# Altium schematic symbol library Schlib1.SchLib: 10 symbols
Pins are listed as number, name and electrical type; pins without a type are passive.

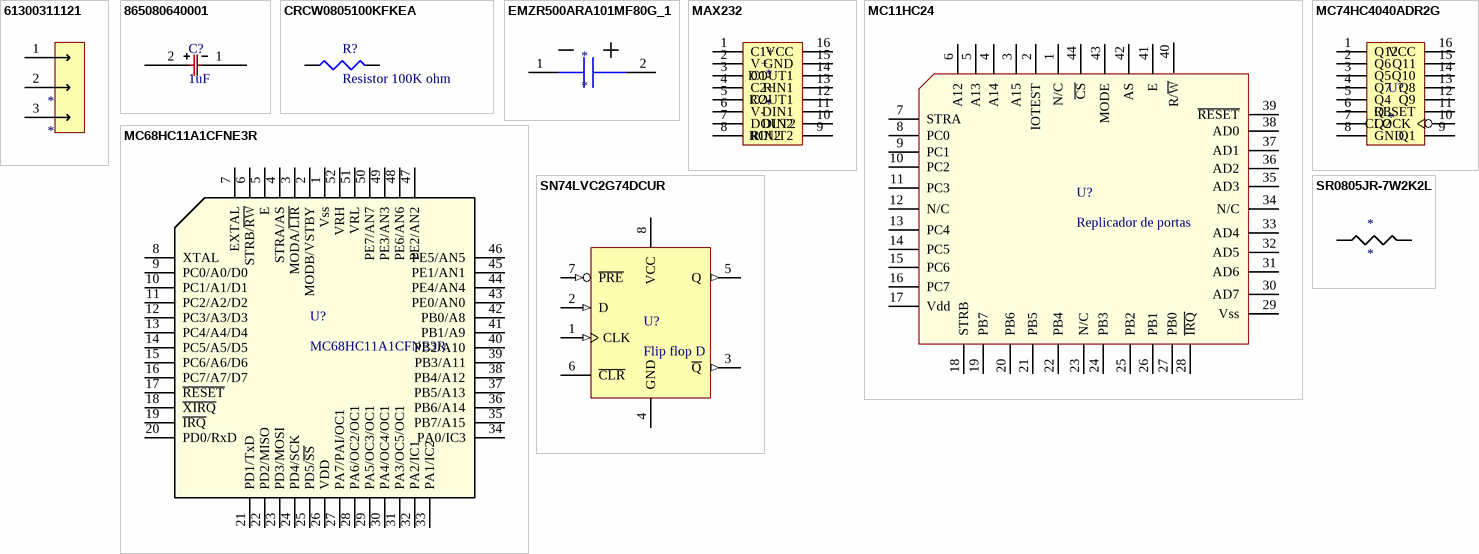
[diagram p0: symbols 61300311121 to SR0805JR-7W2K2L]

## 61300311121
designator *
THT Vertical Pin Header WR-PHD, Pitch 2.54 mm, Single Row, 3 pins; Manufacturer: Wurth Electronics; Manufacturer Part Number: 61300311121; Number of Positions: 3; Gender: Male; Contact Resistance: 20mR; Current Rating: 3A; Voltage Rating: 250V; Pitch: 0.1inch; Supplier 1: Digikey; RoHS: Yes; Category: Connectors; Stock 1: 144979; Pricing 1: 1=0,13, 10=0,113, 25=0,094, 50=0,079, 100=0,071, 1000=0,066 (USD); Mount: Through Hole; Contact Plating: Gold; Contact Material: Copper; Color: Black; Min Operating Temperature: -40°C; Max Operating Temperature: 105°C; Number of Rows: 1; Packaging: Bulk; Termination: Solder; Number of Contacts: 3; Series: WR-PHD; Contact Type: Male Pin; Operating Supply Voltage: 250V; Orientation: 5495OrientationType; Height: 8.94mm; Contact Mating Length: 0.236inch; Lead Free: Lead Free; RoHS Compliant: Yes; Reach SVHC Compliant: Unknown; ComponentLink1URL: https://katalog.we-online.de/em/datasheet/6130xx11121.pdf?src-supplier=Digikey; ComponentLink1Description: https://katalog.we-online.de/em/datasheet/6130xx11121.pdf?src-supplier=Digikey; ComponentLink2URL: http://www.farnell.com/cad/1737268.pdf?src-supplier=Element14; ComponentLink2Description: http://www.farnell.com/cad/1737268.pdf?src-supplier=Element14; ComponentLink3URL: https://datasheet.octopart.com/61300311121-W%C3%BCrth-Elektronik-datasheet-21154836.pdf?src-supplier=Element14; ComponentLink3Description: https://datasheet.octopart.com/61300311121-W%C3%BCrth-Elektronik-datasheet-21154836.pdf?src-supplier=Element14; Supplier Part Number 1: 732-5316-ND
footprint HDR1x3
pins: 1, 2, 3

## 865080640001
designator C?, comment 1uF
CAP ALUM 1UF 20% 50V SMD; Supplier 1: Digikey; Supplier Part Number 1: 732-8446-1-ND
footprint Cap_1uF
pins: 1, 2

## CRCW0805100KFKEA
designator R?, comment Resistor 100K ohm
Fixed Resistor, Metal Glaze/thick Film, 0.125W, 100000ohm, 150V, 1% +/-Tol, 100ppm/Cel, Surface Mount, 0805; Manufacturer: Vishay; Manufacturer Part Number: CRCW0805100KFKEA; Power: 125mW; Rated Temperature: 70°C; Value: 100kR; Temperature Coefficient: 100ppm/°C; Package Height: 0.45mm; Package Length: 2mm; Package Width: 1.25mm; Reference Standard: AEC-Q200; Supplier: Mouser; Supplier Part Number: 71-CRCW0805-100K-E3; RoHS: Yes; Category: Chip SMD Resistors; Stock: 77076; Pricing: 1=0,1, 10=0,022, 50=0,022, 100=0,014, 1000=0,012, 10000=0,007 (USD); Mounting Technology: Surface Mount; Pins: 2; Package Shape: Rectangular; Terminal Finish: Nickel; Case/Package: 0805; Min Operating Temperature: -55°C; Max Operating Temperature: 155°C; Tolerance: 1%; JESD-609 Code: e3; Package Style: SMTMeter; Technology: METAL GLAZE/THICK FILM; Resistor Type: FIXED RESISTOR; Construction: Chip; Packaging: Tape and Reel; Termination: Wraparound; Working Voltage: 150V; Reach SVHC Compliant: Yes; RoHS Compliant: Yes; ComponentLink1URL: https://datasheet.ciiva.com:443/pdfs/VipMasterIC/IC/VISH/VISH-S-A0007266705/VISH-S-A0007266705-1.pdf?src-supplier=IHS+Markit; ComponentLink1Description: https://datasheet.ciiva.com:443/pdfs/VipMasterIC/IC/VISH/VISH-S-A0007266705/VISH-S-A0007266705-1.pdf?src-supplier=IHS+Markit; ComponentLink2URL: https://datasheet.ciiva.com/11809/0900766b80d98b26-11809057.pdf?src-supplier=Rs; ComponentLink2Description: https://datasheet.ciiva.com/11809/0900766b80d98b26-11809057.pdf?src-supplier=Rs; ComponentLink3URL: https://datasheet.ciiva.com/7777/1720486-7777565.pdf?src-supplier=Element14; ComponentLink3Description: https://datasheet.ciiva.com/7777/1720486-7777565.pdf?src-supplier=Element14; ComponentLink4URL: https://datasheet.ciiva.com/7777/1697337-7777349.pdf?src-supplier=Element14; ComponentLink4Description: https://datasheet.ciiva.com/7777/1697337-7777349.pdf?src-supplier=Element14; Supplier 1: Mouser; Supplier Part Number 1: 71-CRCW0805-100K-E3
footprint R100K
pins: 1, 2

## EMZR500ARA101MF80G_1
designator *
Cap Aluminum Lytic 100uF 50V 20% (6.3 X 7.7mm) SMD 0.34 Ohm 350mA 2000h 105°C Automotive T/R; Manufacturer: United Chemi-Con; Manufacturer Part Number: EMZR500ARA101MF80G; Dielectric Material: Aluminium; ESR (Equivalent Series Resistance): 340mR; Dissipation Factor: 10%; Lead/Base Style: Straight; Test Frequency: 100MHz; Supplier 1: Digikey; RoHS: Yes; Category: Capacitors; Stock 1: 25529; Pricing 1: 1=0,52, 10=0,313, 50=0,2288, 100=0,2026 (USD); Mount: Surface Mount; Case/Package: Radial; Number of Pins: 2; Contact Plating: Tin; Min Operating Temperature: -55°C; Max Operating Temperature: 105°C; Packaging: Cut Tape; Capacitance: 100uF; Tolerance: 20%; Voltage Rating: 50V; Series: Alchip™- MZR; Ripple Current: 350mA; Termination: SMD/SMT; Voltage: 50V; Diameter: 6.3mm; Length: 7.7mm; Height: 7.7mm; Ratings: AEC-Q200; Radiation Hardening: No; RoHS Compliant: Yes; Lead Free: Lead Free; Reach SVHC Compliant: No; ComponentLink1URL: http://www.chemi-con.co.jp/cgi-bin/CAT_DB/SEARCH/cat_db_al.cgi?e=e&amp;j=p&amp;pdfname=mzr&src-supplier=Digikey; ComponentLink1Description: http://www.chemi-con.co.jp/cgi-bin/CAT_DB/SEARCH/cat_db_al.cgi?e=e&amp;j=p&amp;pdfname=mzr&src-supplier=Digikey; ComponentLink2URL: https://datasheet.octopart.com/EMZR500ARA101MF80G-United-Chemi-Con-datasheet-154730650.pdf?src-supplier=Electro+Sonic; ComponentLink2Description: https://datasheet.octopart.com/EMZR500ARA101MF80G-United-Chemi-Con-datasheet-154730650.pdf?src-supplier=Electro+Sonic; Supplier Part Number 1: 565-EMZR500ARA101MF80GCT-ND
pins: 1 23, 2 24

## MAX232
designator *
footprint MAX3232
pins: 1 C1+, 2 V+, 3 C1-, 4 C2+, 5 C2-, 6 V-, 7 DOUT2, 8 RIN2, 9 ROUT2, 10 DIN2, 11 DIN1, 12 ROUT1, 13 RIN1, 14 DOUT1, 15 GND, 16 VCC

## MC11HC24
designator U?, comment Replicador de portas
footprint LCC44
pins: 1 N/C, 2 IOTEST, 3 A15, 4 A14, 5 A13, 6 A12, 7 STRA, 8 PC0, 9 PC1, 10 PC2, 11 PC3, 12 N/C, 13 PC4, 14 PC5, 15 PC6, 16 PC7, 17 Vdd, 18 STRB, 19 PB7, 20 PB6, 21 PB5, 22 PB4, 23 N/C, 24 PB3, 25 PB2, 26 PB1, 27 PB0, 28 ~{IRQ}, 29 Vss, 30 AD7, 31 AD6, 32 AD5, 33 AD4, 34 N/C, 35 AD3, 36 AD2, 37 AD1, 38 AD0, 39 ~{RESET}, 40 R/~{W}, 41 E, 42 AS, 43 MODE, 44 ~{CS}

## MC68HC11A1CFNE3R
designator U?
Manufacturer: NXP USA; Interface: SPI,SCI; Peripherals: POR,WDT; Memory Type: ROMless; Number of I/Os: 38; Oscillator Type: External; Supplier 1: Digikey; Manufacturer Part Number: MC68HC11A1CFNE3R; RoHS: No; Mount: Surface Mount; Case/Package: LCC; Min Operating Temperature: -40°C; Max Operating Temperature: 85°C; Series: HC11; Packaging: Tape and Reel; ComponentLink1URL: https://media.digikey.com/pdf/Data%20Sheets/Freescale%20Semi/MC68HC11A.pdf?src-supplier=Digikey; ComponentLink1Description: https://media.digikey.com/pdf/Data%20Sheets/Freescale%20Semi/MC68HC11A.pdf?src-supplier=Digikey; Supplier Part Number 1: MC68HC11A1CFNE3R-ND
footprint MC68HC11
pins: 1 Vss, 2 MODB/VSTBY, 3 MODA/~{LIR}, 4 STRA/AS, 5 E, 6 STRB/~{RW} (oc), 7 EXTAL, 8 XTAL, 9 PC0/A0/D0, 10 PC1/A1/D1, 11 PC2/A2/D2, 12 PC3/A3/D3, 13 PC4/A4/D4, 14 PC5/A5/D5, 15 PC6/A6/D6, 16 PC7/A7/D7, 17 ~{RESET}, 18 ~{XIRQ}, 19 ~{IRQ}, 20 PD0/RxD, 21 PD1/TxD, 22 PD2/MISO, 23 PD3/MOSI, 24 PD4/SCK, 25 PD5/~{SS} , 26 VDD, 27 PA7/PAI/OC1, 28 PA6/OC2/OC1, 29 PA5/OC3/OC1, 30 PA4/OC4/OC1, 31 PA3/OC5/OC1, 32 PA2/IC1, 33 PA1/IC2, 34 PA0/IC3, 35 PB7/A15, 36 PB6/A14, 37 PB5/A13, 38 PB4/A12, 39 PB3/A11, 40 PB2/A10, 41 PB1/A9, 42 PB0/A8, 43 PE0/AN0, 44 PE4/AN4, 45 PE1/AN1, 46 PE5/AN5, 47 PE2/AN2, 48 PE6/AN6, 49 PE3/AN3, 50 PE7/AN7, 51 VRL, 52 VRH

## MC74HC4040ADR2G
designator U?
IC BINARY COUNTER 12-BIT 16SOIC; Supplier 1: Digikey; Supplier Part Number 1: MC74HC4040ADR2GOSCT-ND
footprint MC74HC4040
pins: 1 Q12, 2 Q6, 3 Q5, 4 Q7, 5 Q4, 6 Q3, 7 Q2, 8 GND, 9 Q1, 10 CLOCK, 11 RESET, 12 Q9, 13 Q8, 14 Q10, 15 Q11, 16 VCC

## SN74LVC2G74DCUR
designator U?, comment Flip flop D
D Flip-Flop, LVC/LCX/Z Series, 1-Func, Positive Edge Triggered, 1-Bit, Complementary Output, CMOS, PDSO8; Manufacturer: Texas Instruments; Manufacturer Part Number: SN74LVC2G74DCUR; Package Body Material: Plastic; fmax-Min: 200MHz; Max Frequency@Nom-Sup: 175MHz; Max I(ol): 24mA; Number of Bits: 1; Power Supplies: 3.3V; Prop. Delay@Nom-Sup: 5.9ns; Propagation Delay (tpd): 14.4ns; Max Supply Voltage: 5.5V; Min Supply Voltage: 1.65V; Nominal Supply Voltage: 1.8V; Output Characteristics: 3-STATE; Qualification Status: Not Qualified; Supplier: Mouser; Supplier Part Number: 595-SN74LVC2G74DCUR; RoHS: Yes; Category: Latches and Flip Flops; Stock: 29837; Pricing: 1=0,52, 10=0,382, 50=0,382, 100=0,214, 1000=0,16, 10000=0,128 (USD); Case/Package: VSSOP; Pins: 8; Package Shape: Rectangular; Terminal Finish: Nickel; Min Operating Temperature: -40°C; Max Operating Temperature: 125°C; JESD-609 Code: e4; Output Polarity: Complementary; Clock Edge Trigger Type: Positive Edge; JESD-30 Code: R-PDSO-G8; Logic Type: D FLIP-FLOP; Moisture Sensitivity Level: 1; Channels: 1; Package Style: SMALL OUTLINE, VERY THIN PROFILE, SHRINK PITCHMeter; Packaging: Tape and Reel; Peak Reflow Temperature (Cel): 260°C; Surface Mount: Yes; Technology: CMOS; Terminal Form: Gull Wing; Terminal Position: DUAL; Length: 2.3mm; Width: 2mm; Height - Seated (Max): 0.9mm; Terminal Pitch: 0.5mm; Temperature Grade: AUTOMOTIVE; Reach SVHC Compliant: Yes; RoHS Compliant: Yes; ComponentLink1URL: https://www.ti.com:443/lit/ds/symlink/sn74lvc2g74.pdf?src-supplier=IHS+Markit; ComponentLink1Description: https://www.ti.com:443/lit/ds/symlink/sn74lvc2g74.pdf?src-supplier=IHS+Markit; ComponentLink2URL: https://datasheet.ciiva.com/34301/757249-34301483.pdf?src-supplier=Jameco; ComponentLink2Description: https://datasheet.ciiva.com/34301/757249-34301483.pdf?src-supplier=Jameco; ComponentLink3URL: https://datasheet.ciiva.com/15091/getdatasheetpartid-189863-15091571.pdf?src-supplier=Verical; ComponentLink3Description: https://datasheet.ciiva.com/15091/getdatasheetpartid-189863-15091571.pdf?src-supplier=Verical; ComponentLink4URL: https://datasheet.ciiva.com/14292/sn74lvc2g74-14292478.pdf?src-supplier=Avnet; ComponentLink4Description: https://datasheet.ciiva.com/14292/sn74lvc2g74-14292478.pdf?src-supplier=Avnet; ComponentLink5URL: https://datasheet.ciiva.com/1855/sn74lvc2g74-1855060.pdf?src-supplier=Digikey; ComponentLink5Description: https://datasheet.ciiva.com/1855/sn74lvc2g74-1855060.pdf?src-supplier=Digikey; ComponentLink6URL: https://datasheet.ciiva.com/1855/sn74lvc2g74-1855061.pdf?src-supplier=Digikey; ComponentLink6Description: https://datasheet.ciiva.com/1855/sn74lvc2g74-1855061.pdf?src-supplier=Digikey; ComponentLink7URL: https://datasheet.ciiva.com/1855/sn74lvc2g74-1855062.pdf?src-supplier=Digikey; ComponentLink7Description: https://datasheet.ciiva.com/1855/sn74lvc2g74-1855062.pdf?src-supplier=Digikey; ComponentLink8URL: https://datasheet.ciiva.com/8055/1849776-8055525.pdf?src-supplier=Element14; ComponentLink8Description: https://datasheet.ciiva.com/8055/1849776-8055525.pdf?src-supplier=Element14; ComponentLink9URL: https://datasheet.ciiva.com/48703/001074282-da-01-en-ic-d-type-pos-t-sn74lvc2g74dcur-us-8-tid-48703655.pdf?src-supplier=Conrad; ComponentLink9Description: https://datasheet.ciiva.com/48703/001074282-da-01-en-ic-d-type-pos-t-sn74lvc2g74dcur-us-8-tid-48703655.pdf?src-supplier=Conrad; Supplier 1: Mouser; Supplier Part Number 1: 595-SN74LVC2G74DCUR
footprint VSSOP8
pins: 1 CLK (in), 2 D (in), 3 ~{Q} (out), 4 GND, 5 Q (out), 6 ~{CLR}, 7 ~{PRE} (in), 8 VCC

## SR0805JR-7W2K2L
designator *
Surge Chip Resistor Automotive Grade Thick Film 0805 2.2kOhm 5% Paper T/R; Manufacturer: Yageo; Manufacturer Part Number: SR0805JR-7W2K2L; Max Power Dissipation: 250mW; Temperature Coefficient: 200ppm/°C; Resistance: 2.2kR; Supplier 1: Future Electronics; RoHS: Yes; Category: Chip SMD Resistors; Stock 1: 10000; Pricing 1: 5000=0,014, 15000=0,0137, 50000=0,0133, 100000=0,0131, 200000=0,0128 (USD); Case/Package: 0805; Min Operating Temperature: -55°C; Max Operating Temperature: 155°C; Packaging: Tape and Reel; Number of Terminations: 2; Tolerance: 5%; Features: Automotive AEC-Q200; Series: SR; Length: 0.079inch; Width: 0.049inch; Height: 0.024inch; RoHS Compliant: Yes; ComponentLink1URL: http://www.yageo.com/documents/recent/PYu-SR_20105_RoHS_L_5.pdf?src-supplier=Digikey; ComponentLink1Description: http://www.yageo.com/documents/recent/PYu-SR_20105_RoHS_L_5.pdf?src-supplier=Digikey; ComponentLink2URL: https://www.yageo.com/upload/media/product/productsearch/datasheet/rchip/PYu-SR_20105_RoHS_L_8.pdf?src-supplier=Digikey; ComponentLink2Description: https://www.yageo.com/upload/media/product/productsearch/datasheet/rchip/PYu-SR_20105_RoHS_L_8.pdf?src-supplier=Digikey; Supplier Part Number 1: 7177602
footprint R2.2k
pins: 1, 2